# EAGLE library part 1734037-1 (library headers)
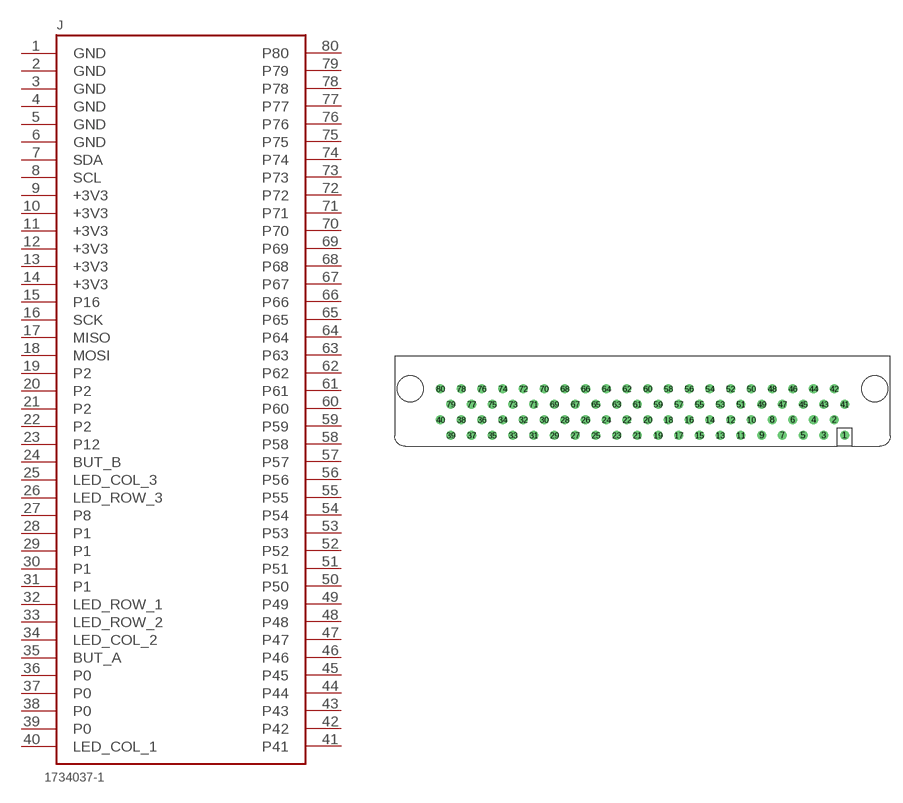
[diagram p1: symbol with the pads of 1734037-1; footprint 1734037-1]

Designator prefix J

## 1734037-1  [1734037-1]
1  GND
2  GND
3  GND
4  GND
5  GND
6  GND
7  SDA
8  SCL
9  +3V3
10  +3V3
11  +3V3
12  +3V3
13  +3V3
14  +3V3
15  P16
16  SCK
17  MISO
18  MOSI
19  P2
20  P2
21  P2
22  P2
23  P12
24  BUT_B
25  LED_COL_3
26  LED_ROW_3
27  P8
28  P1
29  P1
30  P1
31  P1
32  LED_ROW_1
33  LED_ROW_2
34  LED_COL_2
35  BUT_A
36  P0
37  P0
38  P0
39  P0
40  LED_COL_1
41  P41
42  P42
43  P43
44  P44
45  P45
46  P46
47  P47
48  P48
49  P49
50  P50
51  P51
52  P52
53  P53
54  P54
55  P55
56  P56
57  P57
58  P58
59  P59
60  P60
61  P61
62  P62
63  P63
64  P64
65  P65
66  P66
67  P67
68  P68
69  P69
70  P70
71  P71
72  P72
73  P73
74  P74
75  P75
76  P76
77  P77
78  P78
79  P79
80  P80

## Footprint 1734037-1 (pad centres in mm)
drill 0.6: 1 55.13,1.33; 2 53.86,3.23; 3 52.59,1.33; 4 51.32,3.23; 5 50.05,1.33; 6 48.78,3.23; 7 47.51,1.33; 8 46.24,3.23; 9 44.97,1.33; 10 43.7,3.23; 11 42.43,1.33; 12 41.16,3.23; 13 39.89,1.33; 14 38.62,3.23; 15 37.35,1.33; 16 36.08,3.23; 17 34.81,1.33; 18 33.54,3.23; 19 32.27,1.33; 20 31,3.23; 21 29.73,1.33; 22 28.46,3.23; 23 27.19,1.33; 24 25.92,3.23; 25 24.65,1.33; 26 23.38,3.23; 27 22.11,1.33; 28 20.84,3.23; 29 19.57,1.33; 30 18.3,3.23; 31 17.03,1.33; 32 15.76,3.23; 33 14.49,1.33; 34 13.22,3.23; 35 11.95,1.33; 36 10.68,3.23; 37 9.41,1.33; 38 8.14,3.23; 39 6.87,1.33; 40 5.6,3.23; 41 55.13,5.13; 42 53.86,7.03; 43 52.59,5.13; 44 51.32,7.03; 45 50.05,5.13; 46 48.78,7.03; 47 47.51,5.13; 48 46.24,7.03; 49 44.97,5.13; 50 43.7,7.03; 51 42.43,5.13; 52 41.16,7.03; 53 39.89,5.13; 54 38.62,7.03; 55 37.35,5.13; 56 36.08,7.03; 57 34.81,5.13; 58 33.54,7.03; 59 32.27,5.13; 60 31,7.03; 61 29.73,5.13; 62 28.46,7.03; 63 27.19,5.13; 64 25.92,7.03; 65 24.65,5.13; 66 23.38,7.03; 67 22.11,5.13; 68 20.84,7.03; 69 19.57,5.13; 70 18.3,7.03; 71 17.03,5.13; 72 15.76,7.03; 73 14.49,5.13; 74 13.22,7.03; 75 11.95,5.13; 76 10.68,7.03; 77 9.41,5.13; 78 8.14,7.03; 79 6.87,5.13; 80 5.6,7.03
hole 3.2 at 1.9,7.03
hole 3.2 at 58.83,7.03